# Altium schematic symbol library SamacSys.SchLib: 23 symbols
Pins are listed as number, name and electrical type; pins without a type are passive.

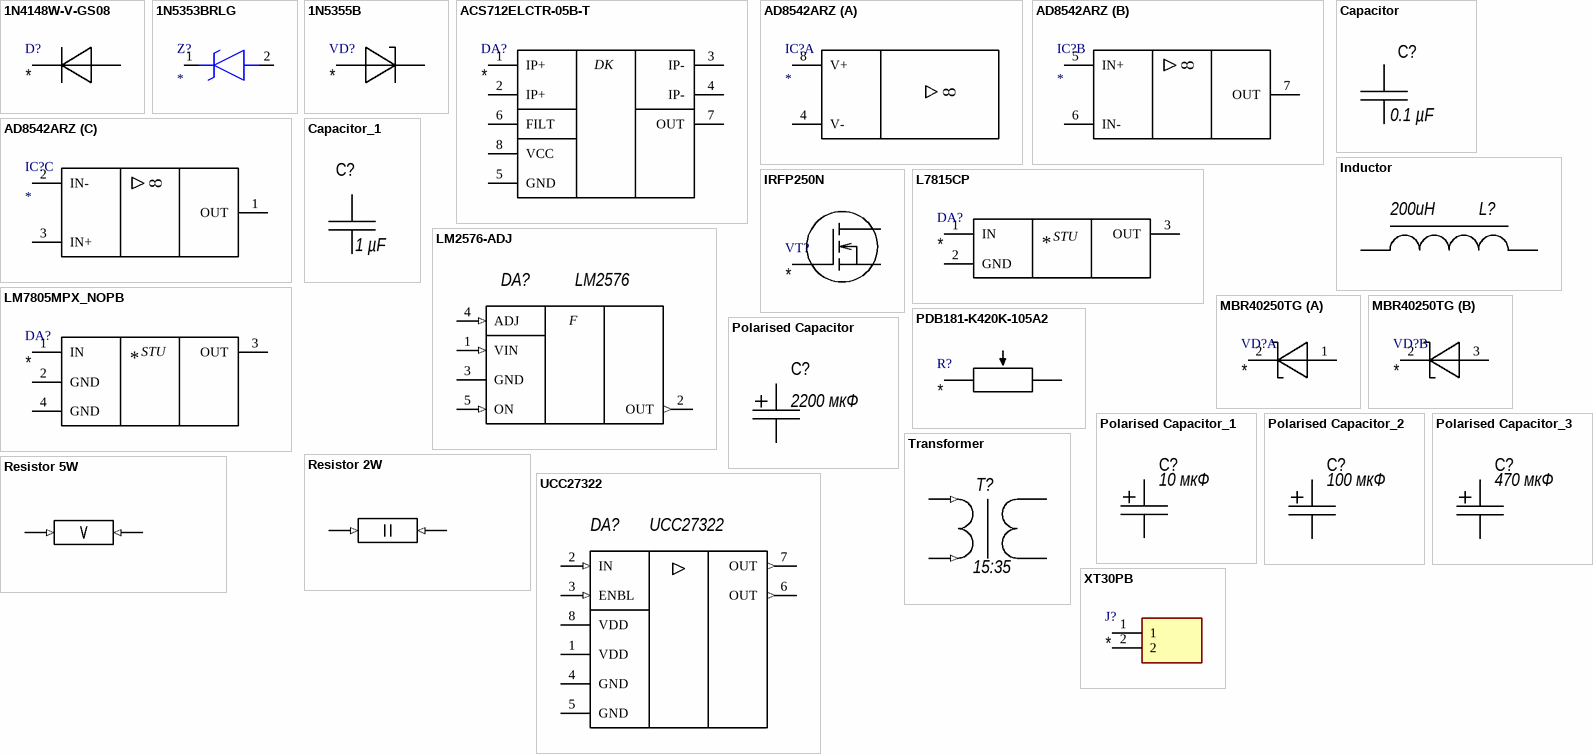
[diagram p0: symbols 1N4148W-V-GS08 to XT30PB]

## 1N4148W-V-GS08
designator D?
Diode; Manufacturer_Name: Vishay; Manufacturer_Part_Number: 1N4148W-V-GS08; Datasheet Link: https://us.rs-online.com/m/d/a2789c8794cb0c42ced29f2dd8571f3c.pdf; Height: 1.35mm; Mouser Part Number: 625-1N4148W-V; Mouser Price/Stock: https://www.mouser.co.uk/ProductDetail/Vishay-Semiconductors/1N4148W-V-GS08?qs=TNTIDjy6APrS%2Fdgq1RSs3A%3D%3D; Arrow Part Number: 1N4148W-V-GS08; Arrow Price/Stock: https://www.arrow.com/en/products/1n4148w-v-gs08/vishay
footprint 1N4148WVGS08
pins: 1 K, 2 A

## 1N5353BRLG
designator Z?
Zener Diode; Manufacturer_Name: onsemi; Manufacturer_Part_Number: 1N5353BRLG; Datasheet Link: https://altium.componentsearchengine.com/Datasheets/2/1N5353BRLG.pdf; Mouser Part Number: 863-1N5353BRLG; Mouser Price/Stock: https://www.mouser.co.uk/ProductDetail/onsemi/1N5353BRLG?qs=y2kkmE52mdPoREqgjHYOJQ%3D%3D; Arrow Part Number: 1N5353BRLG; Arrow Price/Stock: https://www.arrow.com/en/products/1n5353brlg/on-semiconductor?region=nac
footprint DIOAD2260W109L864D349
pins: 1 K, 2 A

## 1N5355B
designator VD?
Zener Diode; Manufacturer_Name: Galaxy; Manufacturer_Part_Number: 1N5355B; Datasheet Link: https://www.onsemi.com/pdf/datasheet/1n5333b-d.pdf
footprint DIOAD2260W109L864D349
pins: 1 K, 2 A

## ACS712ELCTR-05B-T
designator DA?
ampermeter ic; Manufacturer_Name: Sharp Microelectronics; Manufacturer_Part_Number: ACS712ELCTR-05B-T; Datasheet Link: https://www.allegromicro.com/~/media/Files/Datasheets/ACS712-Datasheet.ashx; Height: 1.75mm
footprint SOIC127P600X175-8N
pins: 1 IP+ "1", 2 IP+ "2", 3 IP- "1", 4 IP- "2", 5 GND, 6 FILT, 7 OUT, 8 VCC
text: DK

## AD8542ARZ
designator IC?
Integrated Circuit; Manufacturer_Name: Analog Devices; Manufacturer_Part_Number: AD8542ARZ; Datasheet Link: https://www.analog.com/AD8542/datasheet; Height: 1.75mm; Mouser Part Number: 584-AD8542ARZ; Mouser Price/Stock: https://www.mouser.co.uk/ProductDetail/Analog-Devices/AD8542ARZ?qs=%2FtpEQrCGXCwWddJhPMiQ2Q%3D%3D; Arrow Part Number: AD8542ARZ; Arrow Price/Stock: https://www.arrow.com/en/products/ad8542arz/analog-devices?region=europe
footprint SOIC127P600X175-8N
part A pins: 4 V-, 8 V+
part B pins: 5 IN+, 6 IN-, 7 OUT
part C pins: 1 OUT, 2 IN-, 3 IN+

## Capacitor
designator C?, comment value 0.1 µF  (hidden comment: 0.1 мкФ)
CAP CER 0.1UF 100V 1210; Part Number: 1210E104K101KHT; manufacturer: Knowles Novacap; Tolerance: ±10%; Applications: General Purpose; Capacitance: 0.1 µF; componentlink1description: Datasheet; componentlink1url: https://www.knowlescapacitors.com/getattachment/2d1d9bca-ba82-47f9-be7e-f7ac57875616/High-Temp.aspx; componentlink2description: DigiKey Link; componentlink2url: https://www.digikey.com/en/products/detail/knowles-novacap/1210E104K101KHT/7304176; Device Package: 1210 (3225 Metric); Features: High Temperature; lastupdated: 01.11.2023 19:41:18; Lifecycle Status: Active; Minimum Order: 1; Mounting Type: Surface Mount, MLCC; Operating Temperature: -55°C ~ 200°C; Package / Case: 1210 (3225 Metric); packaging: TapeAndReel; partid: 24785; Part Status: Active; price: 1.89; series: -; Size / Dimension: 0.125" L x 0.100" W (3.18mm x 2.54mm); Supplier 1: DigiKey; Supplier Part Number 1: 1763-1065-1-ND; Thickness (Max): 0.065" (1.65mm); Voltage - Rated: 100V
footprint CAP 1210_3225 - 1.2MM (Chip Capacitor, 2-Leads, Body 3.20x2.50mm, IPC Medium Density)
pins: 1, 2

## Capacitor_1
designator C?, comment Capacitance: 1 µF  (hidden comment: 1 мкФ)
CAP FILM 1UF 20% 35VDC 1210; Part Number: 35MU105MB13225; Manufacturer: Rubycon; Dielectric Material: Acrylic, Metallized; Value: 1 µF; Voltage Rating - DC: 35V; Applications: DC Link, DC Filtering; ComponentLink1Description: Datasheet; ComponentLink1URL: http://www.rubycon.co.jp/en/catalog/e_pdfs/pmlcap/e_MU.pdf; ComponentLink2Description: DigiKey Link; ComponentLink2URL: https://www.digikey.com/en/products/detail/rubycon/35MU105MB13225/4969535; Device Package: 1210 (3225 Metric); Height - Seated (Max): 0.063" (1.60mm); LastUpdated: 01.11.2023 20:43:30; Lifecycle Status: Active; Minimum Order: 1; Mounting Type: Surface Mount; Operating Temperature: -55°C ~ 125°C; Package / Case: 1210 (3225 Metric); Packaging: TapeAndReel; Part Status: Active; Price: 2.41; Series: PMLCAP®, MU; Size / Dimension: 0.126" L x 0.098" W (3.20mm x 2.50mm); Supplier 1: DigiKey; Supplier Part Number 1: 1189-2529-1-ND; Termination: Solder Pads; Tolerance: ±20%
footprint CAP FILM 1210 (G2, Film Capacitor PPS, 2-Leads, Body 3.20x2.50mm, IPC Medium Density)
pins: 1, 2

## Inductor
designator L?, comment 200uH
footprint IND_HCTI-220-5.8
pins: 1, 2

## IRFP250N
designator VT?
MOSFET (N-Channel); Manufacturer_Name: Infineon; Manufacturer_Part_Number: IRFP250N; Datasheet Link: https://www.infineon.com/dgdl/Infineon-IRFP250N-DataSheet-v01_01-EN.pdf?fileId=5546d462533600a4015356288b8b1fde; Height: 5.3mm; Mouser Part Number: N/A; Mouser Price/Stock: https://www.mouser.co.uk/ProductDetail/Infineon-IR/IRFP250N?qs=Gkr2N%2F2q3o3iFaFA442Z6g%3D%3D
footprint TO545P530X1560X2460-3P
pins: 1 G, 2 D, 3 S

## L7815CP
designator DA?
15 V Linear stab; Manufacturer_Name: STMicroelectronics; Manufacturer_Part_Number: L7815CP; Datasheet Link: http://www.st.com/web/en/resource/technical/document/datasheet/CD00000444.pdf; Height: 4.6mm; Mouser Part Number: 511-L7815CP; Mouser Price/Stock: https://www.mouser.co.uk/ProductDetail/STMicroelectronics/L7815CP?qs=%252BX2uje6VeKVI9cfwuCNq4A%3D%3D; Arrow Part Number: L7815CP; Arrow Price/Stock: https://www.arrow.com/en/products/l7815cp/stmicroelectronics?region=europe
footprint TO255P460X1020X2030-3P
pins: 1 IN (power), 2 GND (power), 3 OUT (power)
text: STU

## LM2576-ADJ
designator DA?, comment LM2576
Buck-boost converter
footprint LM2576
pins: 1 VIN (in) "Информационный вход Х6", 2 OUT (out) "Информационный вход Х6", 3 GND (power) "Информационный вход Х6", 4 ADJ (in) "Информационный вход Х6", 5 ON (in) "Информационный вход Х6"
text: F

## LM7805MPX_NOPB
designator DA?
5 V Linear stab; Manufacturer_Name: Texas Instruments; Manufacturer_Part_Number: LM7805MPX/NOPB; Datasheet Link: https://www.arrow.com/en/products/lm7805mpxnopb/texas-instruments; Height: 1.8mm; Mouser Part Number: 595-LM7805MPX/NOPB; Mouser Price/Stock: https://www.mouser.co.uk/ProductDetail/Texas-Instruments/LM7805MPX-NOPB?qs=gO6GG99qvRCSwIVAoVKHPw%3D%3D; Arrow Part Number: LM7805MPX/NOPB; Arrow Price/Stock: https://www.arrow.com/en/products/lm7805mpxnopb/texas-instruments?region=nac
footprint SOT230P700X180-4N
pins: 1 IN, 2 GND "1", 3 OUT, 4 GND "2"
text: STU

## MBR40250TG
designator VD?
Shootky Diode; Manufacturer_Name: onsemi; Manufacturer_Part_Number: MBR40250TG; Datasheet Link: http://www.onsemi.com/pub/Collateral/MBR40250-D.PDF; Height: 4.83mm; Mouser Part Number: 863-MBR40250TG; Mouser Price/Stock: https://www.mouser.co.uk/ProductDetail/onsemi/MBR40250TG?qs=3JMERSakebr9LpXNBMS%2FzA%3D%3D; Arrow Part Number: MBR40250TG; Arrow Price/Stock: https://www.arrow.com/en/products/mbr40250tg/on-semiconductor?region=nac
footprint TO254P483X1010X2035-3P
part A pins: 1 A_1, 2 K
part B pins: 2 K, 3 A_2

## PDB181-K420K-105A2
designator R?
Variable Resistor; Manufacturer_Name: Bourns; Manufacturer_Part_Number: PDB181-K420K-105A2; Datasheet Link: https://www.bourns.com/docs/product-datasheets/PDB18.pdf; Height: 16.5mm; Mouser Part Number: 652-PDB181K420K105A2; Mouser Price/Stock: https://www.mouser.co.uk/ProductDetail/Bourns/PDB181-K420K-105A2?qs=HVbQlW5zcXUfmN1nKSXlOQ%3D%3D; Arrow Part Number: PDB181-K420K-105A2; Arrow Price/Stock: https://www.arrow.com/en/products/pdb181-k420k-105a2/bourns?region=nac
footprint PDB181K220K104B
pins: 1 CCW, 2 WIPER, 3 CW

## Polarised Capacitor
designator C?, comment 2200 мкФ
CAP ALUM 2200UF 20% 50V RADIAL; Part Number: 50RX302200M18X40; manufacturer: Rubycon; Capacitance: 2200µF; Impedance: 29 mOhms; Lifetime @ Temp.: 4000 Hrs @ 130°C; Polarization: Polar; Ripple Current @ High Frequency: 2.8A @ 100kHz; Ripple Current @ Low Frequency: 2.24A @ 120Hz; value: 2200µF; Applications: Automotive; componentlink1description: Datasheet; componentlink1url: http://www.rubycon.co.jp/en/catalog/e_pdfs/aluminum/e_rx30.pdf; componentlink2description: DigiKey Link; componentlink2url: http://digikey.com/product-detail/en/rubycon/50RX302200M18X40/1189-1410-ND/3134366; Device Package: Radial, Can; Height - Seated (Max): 1.654" (42.00mm); lastupdated: 02.09.2020 1:33:35; Lead Spacing: 0.295" (7.50mm); Lifecycle Status: Active; Minimum Order: 1; Mounting Type: Through Hole; Operating Temperature: -40°C ~ 130°C; Package / Case: Radial, Can; packaging: Bulk; partid: 9389; Part Status: Active; price: 3.85; Ratings: AEC-Q200; series: RX30; Size / Dimension: 0.709" Dia (18.00mm); Supplier 1: DigiKey; Supplier Part Number 1: 1189-1410-ND; Tolerance: ±20%; Voltage - Rated: 50V
footprint CAP TH ALUM ELEC D18.00mm S7.50mm H42.00mm (18mm Diameter 7.5mm Lead Spacing Aluminum Electrolytic Capacitors Radial, Can)
pins: 1, 2

## Polarised Capacitor_1
designator C?, comment 10 мкФ
CAP ALUM 10UF 20% 16V RADIAL; Part Number: UPW1C100MDD; manufacturer: Nichicon; Capacitance: 10µF; Impedance: 600 mOhms; Lifetime @ Temp.: 2000 Hrs @ 105°C; Polarization: Polar; Ripple Current @ High Frequency: 180mA @ 100kHz; Ripple Current @ Low Frequency: 54mA @ 120Hz; value: 10µF; Applications: General Purpose; componentlink1description: Datasheet; componentlink1url: http://nichicon-us.com/english/products/pdfs/e-upw.pdf; componentlink2description: DigiKey Link; componentlink2url: http://digikey.com/product-detail/en/nichicon/UPW1C100MDD/493-1767-ND/589508; Device Package: Radial, Can; Height - Seated (Max): 0.433" (11.00mm); lastupdated: 04.09.2020 23:28:56; Lead Spacing: 0.079" (2.00mm); Lifecycle Status: Active; Minimum Order: 1; Mounting Type: Through Hole; Operating Temperature: -55°C ~ 105°C; Package / Case: Radial, Can; packaging: Bulk; partid: 21402; Part Status: Active; price: 0.26; series: UPW; Size / Dimension: 0.197" Dia (5.00mm); Supplier 1: DigiKey; Supplier Part Number 1: 493-1767-ND; Tolerance: ±20%; Voltage - Rated: 16V
footprint CAP TH ALUM ELEC D5.00mm S2.00mm H11.00mm (5mm Diameter 2mm Lead Spacing Aluminum Electrolytic Capacitors Radial, Can)
pins: 1, 2

## Polarised Capacitor_2
designator C?, comment 100 мкФ
CAP ALUM 100UF 20% 25V RADIAL; Part Number: UKL1E101KPDANATD; manufacturer: Nichicon; Capacitance: 100µF; Lifetime @ Temp.: 1000 Hrs @ 105°C; Polarization: Polar; Ripple Current @ High Frequency: 420mA @ 10kHz; Ripple Current @ Low Frequency: 280mA @ 120Hz; Tolerance: ±10%; value: 100µF; Applications: General Purpose; componentlink1description: Datasheet; componentlink1url: http://nichicon-us.com/english/products/pdfs/e-ukl.pdf; componentlink2description: DigiKey Link; componentlink2url: http://digikey.com/product-detail/en/nichicon/UKL1E101KPDANATD/493-15360-1-ND/6555998; Device Package: Radial, Can; Height - Seated (Max): 0.492" (12.50mm); lastupdated: 07.09.2020 5:24:52; Lead Spacing: 0.138" (3.50mm); Lifecycle Status: Active; Minimum Order: 1; Mounting Type: Through Hole; Operating Temperature: -40°C ~ 105°C; Package / Case: Radial, Can; packaging: TapeAndBox; partid: 7205; Part Status: Active; price: 0.16; series: UKL; Size / Dimension: 0.315" Dia (8.00mm); Supplier 1: DigiKey; Supplier Part Number 1: 493-15360-1-ND; Voltage - Rated: 25V
footprint CAP TH ALUM ELEC D8.00mm S3.50mm H12.50mm (8mm Diameter 3.5mm Lead Spacing Aluminum Electrolytic Capacitors Radial, Can)
pins: 1, 2

## Polarised Capacitor_3
designator C?, comment 470 мкФ
CAP ALUM 470UF 20% 25V RADIAL; Part Number: 25WA470MEFCT810X9; manufacturer: Rubycon; Capacitance: 470µF; Lifetime @ Temp.: 2000 Hrs @ 85°C; Polarization: Polar; Ripple Current @ Low Frequency: 460mA @ 120Hz; value: 470µF; Applications: General Purpose; componentlink1description: Datasheet; componentlink1url: http://www.rubycon.co.jp/en/catalog/e_pdfs/aluminum/e_wa.pdf; componentlink2description: DigiKey Link; componentlink2url: http://digikey.com/product-detail/en/rubycon/25WA470MEFCT810X9/1189-3717-1-ND/6599186; Device Package: Radial, Can; Height - Seated (Max): 0.413" (10.50mm); lastupdated: 02.09.2020 1:26:22; Lead Spacing: 0.197" (5.00mm); Lifecycle Status: Active; Minimum Order: 1; Mounting Type: Through Hole; Operating Temperature: -40°C ~ 85°C; Package / Case: Radial, Can; packaging: TapeAndBox; partid: 9499; Part Status: Active; price: 0.17; series: WA; Size / Dimension: 0.394" Dia (10.00mm); Supplier 1: DigiKey; Supplier Part Number 1: 1189-3717-1-ND; Tolerance: ±20%; Voltage - Rated: 25V
footprint CAP TH ALUM ELEC D18.00mm S7.50mm H42.00mm (18mm Diameter 7.5mm Lead Spacing Aluminum Electrolytic Capacitors Radial, Can)
pins: 1, 2

## Resistor 2W
designator R?
2W
footprint FP-MCS3264-IPC_A
pins: 1 (in) "*", 2 (in) "*"

## Resistor 5W
designator R?
5W
footprint RESAD2860W80L2200D950
pins: 1 (in) "*", 2 (in) "*"

## Transformer
designator T?, comment 15:35
footprint WE-GDT_EP5 (Gate-Drive-Transformer, size EP5)
pins: 1 "Информационный вход Х6", 3 "Информационный вход Х6", 4 (in) "Информационный вход Х6", 6 (in) "Информационный вход Х6"

## UCC27322
designator DA?
Single 9-A High-Speed Low-Side Mosfet Driver With Enable
footprint SOIC127P599X175-8N
pins: 1 VDD (power), 2 IN (in), 3 ENBL (in), 4 GND (power) "A", 5 GND (power) "P", 6 OUT (out), 7 OUT (out), 8 VDD (power)

## XT30PB
designator J?
Connector; Manufacturer_Name: Amass; Manufacturer_Part_Number: XT30PB; Datasheet Link: https://www.tme.eu/Document/4acc913878197f8c2e30d4b8cdc47230/XT30UPB%20SPEC.pdf; Height: 10.7mm
footprint XT30PB
pins: 1, 2